# Altium footprint library CQFP_Sq_50P_Side_L.PcbLib: 5 footprints
Each footprint in its own frame and in the unit in brackets; x right, y up, seen from the top. Pads: shape width x height; smd on the part's side, far side on the other; paste and mask are expansions set on the pad; w line width, h text height; cw(c..) or ccw(c..) is an arc to the next point about the centre after c.
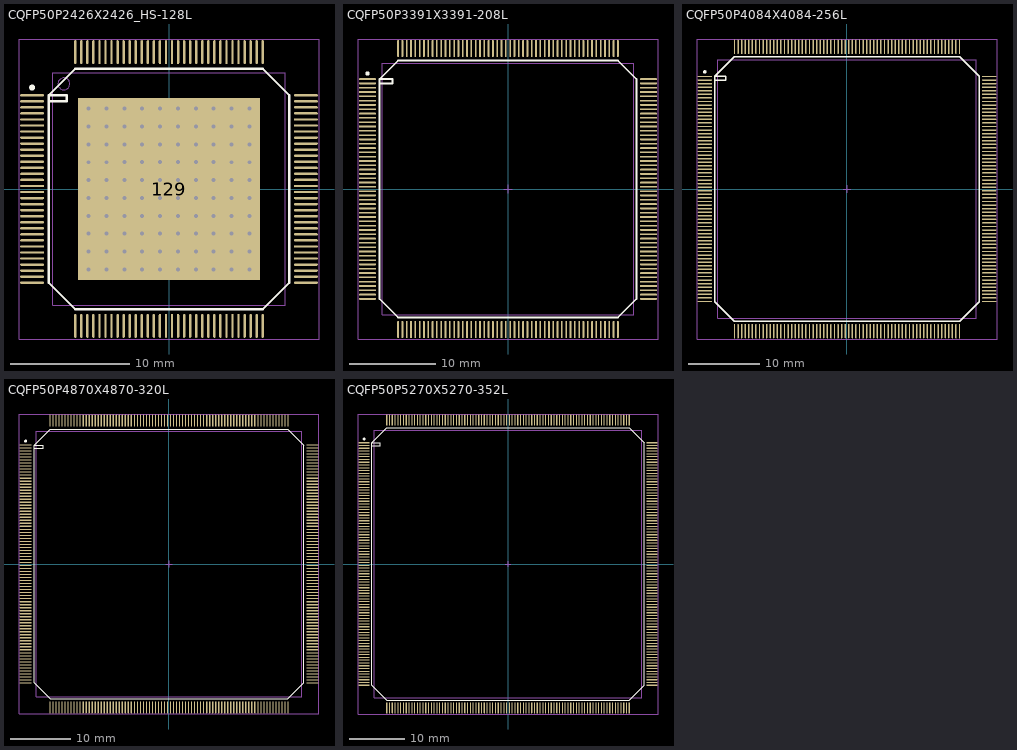
[diagram p0: the footprints below, top view; thin cyan lines are the x and y axes]

## CQFP50P2426X2426_HS-128L [mm] "CQFP, 128-Leads, Body 19.6x19.6mm; Pitch 0.508mm, Gullwing Leadform, IPC High Density"
height 3.4
pads (129):
  oval 2x0.2 smd: 1(-11.5,7.874) 2(-11.5,7.366) 3(-11.5,6.858) 4(-11.5,6.35) 5(-11.5,5.842) 6(-11.5,5.334) 7(-11.5,4.826) 8(-11.5,4.318) 9(-11.5,3.81) 10(-11.5,3.302) 11(-11.5,2.794) 12(-11.5,2.286) 13(-11.5,1.778) 14(-11.5,1.27) 15(-11.5,0.762) 16(-11.5,0.254) 17(-11.5,-0.254) 18(-11.5,-0.762) 19(-11.5,-1.27) 20(-11.5,-1.778) 21(-11.5,-2.286) 22(-11.5,-2.794) 23(-11.5,-3.302) 24(-11.5,-3.81) 25(-11.5,-4.318) 26(-11.5,-4.826) 27(-11.5,-5.334) 28(-11.5,-5.842) 29(-11.5,-6.35) 30(-11.5,-6.858) 31(-11.5,-7.366) 32(-11.5,-7.874) 65(11.5,-7.874) 66(11.5,-7.366) 67(11.5,-6.858) 68(11.5,-6.35) 69(11.5,-5.842) 70(11.5,-5.334) 71(11.5,-4.826) 72(11.5,-4.318) 73(11.5,-3.81) 74(11.5,-3.302) 75(11.5,-2.794) 76(11.5,-2.286) 77(11.5,-1.778) 78(11.5,-1.27) 79(11.5,-0.762) 80(11.5,-0.254) 81(11.5,0.254) 82(11.5,0.762) 83(11.5,1.27) 84(11.5,1.778) 85(11.5,2.286) 86(11.5,2.794) 87(11.5,3.302) 88(11.5,3.81) 89(11.5,4.318) 90(11.5,4.826) 91(11.5,5.334) 92(11.5,5.842) 93(11.5,6.35) 94(11.5,6.858) 95(11.5,7.366) 96(11.5,7.874)
  oval 0.2x2 smd: 33(-7.874,-11.5) 34(-7.366,-11.5) 35(-6.858,-11.5) 36(-6.35,-11.5) 37(-5.842,-11.5) 38(-5.334,-11.5) 39(-4.826,-11.5) 40(-4.318,-11.5) 41(-3.81,-11.5) 42(-3.302,-11.5) 43(-2.794,-11.5) 44(-2.286,-11.5) 45(-1.778,-11.5) 46(-1.27,-11.5) 47(-0.762,-11.5) 48(-0.254,-11.5) 49(0.254,-11.5) 50(0.762,-11.5) 51(1.27,-11.5) 52(1.778,-11.5) 53(2.286,-11.5) 54(2.794,-11.5) 55(3.302,-11.5) 56(3.81,-11.5) 57(4.318,-11.5) 58(4.826,-11.5) 59(5.334,-11.5) 60(5.842,-11.5) 61(6.35,-11.5) 62(6.858,-11.5) 63(7.366,-11.5) 64(7.874,-11.5) 97(7.874,11.5) 98(7.366,11.5) 99(6.858,11.5) 100(6.35,11.5) 101(5.842,11.5) 102(5.334,11.5) 103(4.826,11.5) 104(4.318,11.5) 105(3.81,11.5) 106(3.302,11.5) 107(2.794,11.5) 108(2.286,11.5) 109(1.778,11.5) 110(1.27,11.5) 111(0.762,11.5) 112(0.254,11.5) 113(-0.254,11.5) 114(-0.762,11.5) 115(-1.27,11.5) 116(-1.778,11.5) 117(-2.286,11.5) 118(-2.794,11.5) 119(-3.302,11.5) 120(-3.81,11.5) 121(-4.318,11.5) 122(-4.826,11.5) 123(-5.334,11.5) 124(-5.842,11.5) 125(-6.35,11.5) 126(-6.858,11.5) 127(-7.366,11.5) 128(-7.874,11.5)
  rect 15.3x15.3 smd: 129(0,0)
via 6.75,2.25 diameter 0.43 hole 0.33
via 5.25,2.25 diameter 0.43 hole 0.33
via 6.75,3.75 diameter 0.43 hole 0.33
via 5.25,3.75 diameter 0.43 hole 0.33
via -6.75,3.75 diameter 0.43 hole 0.33
via -6.75,2.25 diameter 0.43 hole 0.33
via -5.25,2.25 diameter 0.43 hole 0.33
via -5.25,3.75 diameter 0.43 hole 0.33
via -6.75,-3.75 diameter 0.43 hole 0.33
via -5.25,-3.75 diameter 0.43 hole 0.33
via -6.75,-2.25 diameter 0.43 hole 0.33
via -5.25,-2.25 diameter 0.43 hole 0.33
via 6.75,-3.75 diameter 0.43 hole 0.33
via 5.25,-3.75 diameter 0.43 hole 0.33
via 6.75,-2.25 diameter 0.43 hole 0.33
via 5.25,-2.25 diameter 0.43 hole 0.33
via 6.75,-0.75 diameter 0.43 hole 0.33
via 6.75,0.75 diameter 0.43 hole 0.33
via 5.25,-0.75 diameter 0.43 hole 0.33
via 5.25,0.75 diameter 0.43 hole 0.33
via -5.25,0.75 diameter 0.43 hole 0.33
via -6.75,0.75 diameter 0.43 hole 0.33
via -6.75,-0.75 diameter 0.43 hole 0.33
via -5.25,-0.75 diameter 0.43 hole 0.33
via 3.75,3.75 diameter 0.43 hole 0.33
via 2.25,3.75 diameter 0.43 hole 0.33
via 0.75,3.75 diameter 0.43 hole 0.33
via -3.75,3.75 diameter 0.43 hole 0.33
via -2.25,3.75 diameter 0.43 hole 0.33
via -0.75,3.75 diameter 0.43 hole 0.33
via 3.75,2.25 diameter 0.43 hole 0.33
via 2.25,2.25 diameter 0.43 hole 0.33
via 0.75,2.25 diameter 0.43 hole 0.33
via -3.75,2.25 diameter 0.43 hole 0.33
via -2.25,2.25 diameter 0.43 hole 0.33
via -0.75,2.25 diameter 0.43 hole 0.33
via 3.75,0.75 diameter 0.43 hole 0.33
via 2.25,0.75 diameter 0.43 hole 0.33
via 0.75,0.75 diameter 0.43 hole 0.33
via -3.75,0.75 diameter 0.43 hole 0.33
via -2.25,0.75 diameter 0.43 hole 0.33
via -0.75,0.75 diameter 0.43 hole 0.33
via 3.75,-3.75 diameter 0.43 hole 0.33
via 2.25,-3.75 diameter 0.43 hole 0.33
via 0.75,-3.75 diameter 0.43 hole 0.33
via -3.75,-3.75 diameter 0.43 hole 0.33
via -2.25,-3.75 diameter 0.43 hole 0.33
via -0.75,-3.75 diameter 0.43 hole 0.33
via 3.75,-2.25 diameter 0.43 hole 0.33
via 2.25,-2.25 diameter 0.43 hole 0.33
via 0.75,-2.25 diameter 0.43 hole 0.33
via -3.75,-2.25 diameter 0.43 hole 0.33
via -2.25,-2.25 diameter 0.43 hole 0.33
via 3.75,-0.75 diameter 0.43 hole 0.33
via 2.25,-0.75 diameter 0.43 hole 0.33
via 0.75,-0.75 diameter 0.43 hole 0.33
via -3.75,-0.75 diameter 0.43 hole 0.33
via -2.25,-0.75 diameter 0.43 hole 0.33
via -0.75,-2.25 diameter 0.43 hole 0.33
via -0.75,-0.75 diameter 0.43 hole 0.33
via -0.75,5.25 diameter 0.43 hole 0.33
via -2.25,5.25 diameter 0.43 hole 0.33
via -3.75,5.25 diameter 0.43 hole 0.33
via 0.75,5.25 diameter 0.43 hole 0.33
via 2.25,5.25 diameter 0.43 hole 0.33
via 3.75,5.25 diameter 0.43 hole 0.33
via -5.25,5.25 diameter 0.43 hole 0.33
via -6.75,5.25 diameter 0.43 hole 0.33
via 5.25,5.25 diameter 0.43 hole 0.33
via 6.75,5.25 diameter 0.43 hole 0.33
via -0.75,6.75 diameter 0.43 hole 0.33
via -2.25,6.75 diameter 0.43 hole 0.33
via -3.75,6.75 diameter 0.43 hole 0.33
via 0.75,6.75 diameter 0.43 hole 0.33
via 2.25,6.75 diameter 0.43 hole 0.33
via 3.75,6.75 diameter 0.43 hole 0.33
via -5.25,6.75 diameter 0.43 hole 0.33
via -6.75,6.75 diameter 0.43 hole 0.33
via 5.25,6.75 diameter 0.43 hole 0.33
via 6.75,6.75 diameter 0.43 hole 0.33
via 0.75,-5.25 diameter 0.43 hole 0.33
via 2.25,-5.25 diameter 0.43 hole 0.33
via 3.75,-5.25 diameter 0.43 hole 0.33
via -0.75,-5.25 diameter 0.43 hole 0.33
via -2.25,-5.25 diameter 0.43 hole 0.33
via -3.75,-5.25 diameter 0.43 hole 0.33
via 5.25,-5.25 diameter 0.43 hole 0.33
via 6.75,-5.25 diameter 0.43 hole 0.33
via -5.25,-5.25 diameter 0.43 hole 0.33
via -6.75,-5.25 diameter 0.43 hole 0.33
via 0.75,-6.75 diameter 0.43 hole 0.33
via 2.25,-6.75 diameter 0.43 hole 0.33
via 3.75,-6.75 diameter 0.43 hole 0.33
via -0.75,-6.75 diameter 0.43 hole 0.33
via -2.25,-6.75 diameter 0.43 hole 0.33
via -3.75,-6.75 diameter 0.43 hole 0.33
via 5.25,-6.75 diameter 0.43 hole 0.33
via 6.75,-6.75 diameter 0.43 hole 0.33
via -5.25,-6.75 diameter 0.43 hole 0.33
via -6.75,-6.75 diameter 0.43 hole 0.33
Top Overlay:
  circle w0.25: c-11.5,8.524 r0.125
  lines w0.2: -10.1,7.375 -8.6,7.375 -8.6,7.875 -10.1,7.875 ; -10.1,7.875 -7.875,10.1 7.875,10.1 10.1,7.875 10.1,-7.875 7.875,-10.1 -7.875,-10.1 -10.1,-7.875 -10.1,7.875
Mechanical 13:
  circle w0.1: c-8.83,8.83 r0.5
  lines w0.1: -9.78,-9.78 9.78,-9.78 9.78,9.78 -9.78,9.78 -9.78,-9.78
Mechanical 15:
  lines w0.1: -0.5,0 0.5,0 ; 0,-0.5 0,0.5 ; -12.6,-12.6 12.6,-12.6 12.6,12.6 -12.6,12.6 -12.6,-12.6
3D body: height 3.4, standoff 0, extent -9.78,-9.78 9.78,9.78

## CQFP50P3391X3391-208L [mm] "CQFP, 208-Leads, Body 29x29mm; Pitch 0.5mm, Gullwing Leadform, IPC High Density"
height 3.3
pads (208):
  oval 2x0.2 smd: 1(-16.3,12.75) 2(-16.3,12.25) 3(-16.3,11.75) 4(-16.3,11.25) 5(-16.3,10.75) 6(-16.3,10.25) 7(-16.3,9.75) 8(-16.3,9.25) 9(-16.3,8.75) 10(-16.3,8.25) 11(-16.3,7.75) 12(-16.3,7.25) 13(-16.3,6.75) 14(-16.3,6.25) 15(-16.3,5.75) 16(-16.3,5.25) 17(-16.3,4.75) 18(-16.3,4.25) 19(-16.3,3.75) 20(-16.3,3.25) 21(-16.3,2.75) 22(-16.3,2.25) 23(-16.3,1.75) 24(-16.3,1.25) 25(-16.3,0.75) 26(-16.3,0.25) 27(-16.3,-0.25) 28(-16.3,-0.75) 29(-16.3,-1.25) 30(-16.3,-1.75) 31(-16.3,-2.25) 32(-16.3,-2.75) 33(-16.3,-3.25) 34(-16.3,-3.75) 35(-16.3,-4.25) 36(-16.3,-4.75) 37(-16.3,-5.25) 38(-16.3,-5.75) 39(-16.3,-6.25) 40(-16.3,-6.75) 41(-16.3,-7.25) 42(-16.3,-7.75) 43(-16.3,-8.25) 44(-16.3,-8.75) 45(-16.3,-9.25) 46(-16.3,-9.75) 47(-16.3,-10.25) 48(-16.3,-10.75) 49(-16.3,-11.25) 50(-16.3,-11.75) 51(-16.3,-12.25) 52(-16.3,-12.75) 105(16.3,-12.75) 106(16.3,-12.25) 107(16.3,-11.75) 108(16.3,-11.25) 109(16.3,-10.75) 110(16.3,-10.25) 111(16.3,-9.75) 112(16.3,-9.25) 113(16.3,-8.75) 114(16.3,-8.25) 115(16.3,-7.75) 116(16.3,-7.25) 117(16.3,-6.75) 118(16.3,-6.25) 119(16.3,-5.75) 120(16.3,-5.25) 121(16.3,-4.75) 122(16.3,-4.25) 123(16.3,-3.75) 124(16.3,-3.25) 125(16.3,-2.75) 126(16.3,-2.25) 127(16.3,-1.75) 128(16.3,-1.25) 129(16.3,-0.75) 130(16.3,-0.25) 131(16.3,0.25) 132(16.3,0.75) 133(16.3,1.25) 134(16.3,1.75) 135(16.3,2.25) 136(16.3,2.75) 137(16.3,3.25) 138(16.3,3.75) 139(16.3,4.25) 140(16.3,4.75) 141(16.3,5.25) 142(16.3,5.75) 143(16.3,6.25) 144(16.3,6.75) 145(16.3,7.25) 146(16.3,7.75) 147(16.3,8.25) 148(16.3,8.75) 149(16.3,9.25) 150(16.3,9.75) 151(16.3,10.25) 152(16.3,10.75) 153(16.3,11.25) 154(16.3,11.75) 155(16.3,12.25) 156(16.3,12.75)
  oval 0.2x2 smd: 53(-12.75,-16.3) 54(-12.25,-16.3) 55(-11.75,-16.3) 56(-11.25,-16.3) 57(-10.75,-16.3) 58(-10.25,-16.3) 59(-9.75,-16.3) 60(-9.25,-16.3) 61(-8.75,-16.3) 62(-8.25,-16.3) 63(-7.75,-16.3) 64(-7.25,-16.3) 65(-6.75,-16.3) 66(-6.25,-16.3) 67(-5.75,-16.3) 68(-5.25,-16.3) 69(-4.75,-16.3) 70(-4.25,-16.3) 71(-3.75,-16.3) 72(-3.25,-16.3) 73(-2.75,-16.3) 74(-2.25,-16.3) 75(-1.75,-16.3) 76(-1.25,-16.3) 77(-0.75,-16.3) 78(-0.25,-16.3) 79(0.25,-16.3) 80(0.75,-16.3) 81(1.25,-16.3) 82(1.75,-16.3) 83(2.25,-16.3) 84(2.75,-16.3) 85(3.25,-16.3) 86(3.75,-16.3) 87(4.25,-16.3) 88(4.75,-16.3) 89(5.25,-16.3) 90(5.75,-16.3) 91(6.25,-16.3) 92(6.75,-16.3) 93(7.25,-16.3) 94(7.75,-16.3) 95(8.25,-16.3) 96(8.75,-16.3) 97(9.25,-16.3) 98(9.75,-16.3) 99(10.25,-16.3) 100(10.75,-16.3) 101(11.25,-16.3) 102(11.75,-16.3) 103(12.25,-16.3) 104(12.75,-16.3) 157(12.75,16.3) 158(12.25,16.3) 159(11.75,16.3) 160(11.25,16.3) 161(10.75,16.3) 162(10.25,16.3) 163(9.75,16.3) 164(9.25,16.3) 165(8.75,16.3) 166(8.25,16.3) 167(7.75,16.3) 168(7.25,16.3) 169(6.75,16.3) 170(6.25,16.3) 171(5.75,16.3) 172(5.25,16.3) 173(4.75,16.3) 174(4.25,16.3) 175(3.75,16.3) 176(3.25,16.3) 177(2.75,16.3) 178(2.25,16.3) 179(1.75,16.3) 180(1.25,16.3) 181(0.75,16.3) 182(0.25,16.3) 183(-0.25,16.3) 184(-0.75,16.3) 185(-1.25,16.3) 186(-1.75,16.3) 187(-2.25,16.3) 188(-2.75,16.3) 189(-3.25,16.3) 190(-3.75,16.3) 191(-4.25,16.3) 192(-4.75,16.3) 193(-5.25,16.3) 194(-5.75,16.3) 195(-6.25,16.3) 196(-6.75,16.3) 197(-7.25,16.3) 198(-7.75,16.3) 199(-8.25,16.3) 200(-8.75,16.3) 201(-9.25,16.3) 202(-9.75,16.3) 203(-10.25,16.3) 204(-10.75,16.3) 205(-11.25,16.3) 206(-11.75,16.3) 207(-12.25,16.3) 208(-12.75,16.3)
Top Overlay:
  circle w0.25: c-16.3,13.4 r0.125
  lines w0.2: -14.9,12.25 -13.4,12.25 -13.4,12.75 -14.9,12.75 ; -14.9,12.75 -14.9,-12.75 -12.75,-14.9 12.75,-14.9 14.9,-12.75 14.9,12.75 12.75,14.9 -12.75,14.9 -14.9,12.75
Mechanical 13:
  lines w0.1: -14.605,-14.605 -14.605,14.605 14.605,14.605 14.605,-14.605 -14.605,-14.605
Mechanical 15:
  lines w0.1: -0.5,0 0.5,0 ; 0,-0.5 0,0.5 ; -17.4,-17.4 -17.4,17.4 17.4,17.4 17.4,-17.4 -17.4,-17.4
3D body: height 3.3, standoff 0, extent -14.605,-14.605 14.605,14.605

## CQFP50P4084X4084-256L [mm] "CQFP, 256-Leads, Body 36x36mm; Pitch 0.5mm, Gullwing Leadform, IPC High Density"
height 3.3
pads (256):
  oval 2x0.2 smd: 1(-19.9,15.75) 2(-19.9,15.25) 3(-19.9,14.75) 4(-19.9,14.25) 5(-19.9,13.75) 6(-19.9,13.25) 7(-19.9,12.75) 8(-19.9,12.25) 9(-19.9,11.75) 10(-19.9,11.25) 11(-19.9,10.75) 12(-19.9,10.25) 13(-19.9,9.75) 14(-19.9,9.25) 15(-19.9,8.75) 16(-19.9,8.25) 17(-19.9,7.75) 18(-19.9,7.25) 19(-19.9,6.75) 20(-19.9,6.25) 21(-19.9,5.75) 22(-19.9,5.25) 23(-19.9,4.75) 24(-19.9,4.25) 25(-19.9,3.75) 26(-19.9,3.25) 27(-19.9,2.75) 28(-19.9,2.25) 29(-19.9,1.75) 30(-19.9,1.25) 31(-19.9,0.75) 32(-19.9,0.25) 33(-19.9,-0.25) 34(-19.9,-0.75) 35(-19.9,-1.25) 36(-19.9,-1.75) 37(-19.9,-2.25) 38(-19.9,-2.75) 39(-19.9,-3.25) 40(-19.9,-3.75) 41(-19.9,-4.25) 42(-19.9,-4.75) 43(-19.9,-5.25) 44(-19.9,-5.75) 45(-19.9,-6.25) 46(-19.9,-6.75) 47(-19.9,-7.25) 48(-19.9,-7.75) 49(-19.9,-8.25) 50(-19.9,-8.75) 51(-19.9,-9.25) 52(-19.9,-9.75) 53(-19.9,-10.25) 54(-19.9,-10.75) 55(-19.9,-11.25) 56(-19.9,-11.75) 57(-19.9,-12.25) 58(-19.9,-12.75) 59(-19.9,-13.25) 60(-19.9,-13.75) 61(-19.9,-14.25) 62(-19.9,-14.75) 63(-19.9,-15.25) 64(-19.9,-15.75) 129(19.9,-15.75) 130(19.9,-15.25) 131(19.9,-14.75) 132(19.9,-14.25) 133(19.9,-13.75) 134(19.9,-13.25) 135(19.9,-12.75) 136(19.9,-12.25) 137(19.9,-11.75) 138(19.9,-11.25) 139(19.9,-10.75) 140(19.9,-10.25) 141(19.9,-9.75) 142(19.9,-9.25) 143(19.9,-8.75) 144(19.9,-8.25) 145(19.9,-7.75) 146(19.9,-7.25) 147(19.9,-6.75) 148(19.9,-6.25) 149(19.9,-5.75) 150(19.9,-5.25) 151(19.9,-4.75) 152(19.9,-4.25) 153(19.9,-3.75) 154(19.9,-3.25) 155(19.9,-2.75) 156(19.9,-2.25) 157(19.9,-1.75) 158(19.9,-1.25) 159(19.9,-0.75) 160(19.9,-0.25) 161(19.9,0.25) 162(19.9,0.75) 163(19.9,1.25) 164(19.9,1.75) 165(19.9,2.25) 166(19.9,2.75) 167(19.9,3.25) 168(19.9,3.75) 169(19.9,4.25) 170(19.9,4.75) 171(19.9,5.25) 172(19.9,5.75) 173(19.9,6.25) 174(19.9,6.75) 175(19.9,7.25) 176(19.9,7.75) 177(19.9,8.25) 178(19.9,8.75) 179(19.9,9.25) 180(19.9,9.75) 181(19.9,10.25) 182(19.9,10.75) 183(19.9,11.25) 184(19.9,11.75) 185(19.9,12.25) 186(19.9,12.75) 187(19.9,13.25) 188(19.9,13.75) 189(19.9,14.25) 190(19.9,14.75) 191(19.9,15.25) 192(19.9,15.75)
  oval 0.2x2 smd: 65(-15.75,-19.9) 66(-15.25,-19.9) 67(-14.75,-19.9) 68(-14.25,-19.9) 69(-13.75,-19.9) 70(-13.25,-19.9) 71(-12.75,-19.9) 72(-12.25,-19.9) 73(-11.75,-19.9) 74(-11.25,-19.9) 75(-10.75,-19.9) 76(-10.25,-19.9) 77(-9.75,-19.9) 78(-9.25,-19.9) 79(-8.75,-19.9) 80(-8.25,-19.9) 81(-7.75,-19.9) 82(-7.25,-19.9) 83(-6.75,-19.9) 84(-6.25,-19.9) 85(-5.75,-19.9) 86(-5.25,-19.9) 87(-4.75,-19.9) 88(-4.25,-19.9) 89(-3.75,-19.9) 90(-3.25,-19.9) 91(-2.75,-19.9) 92(-2.25,-19.9) 93(-1.75,-19.9) 94(-1.25,-19.9) 95(-0.75,-19.9) 96(-0.25,-19.9) 97(0.25,-19.9) 98(0.75,-19.9) 99(1.25,-19.9) 100(1.75,-19.9) 101(2.25,-19.9) 102(2.75,-19.9) 103(3.25,-19.9) 104(3.75,-19.9) 105(4.25,-19.9) 106(4.75,-19.9) 107(5.25,-19.9) 108(5.75,-19.9) 109(6.25,-19.9) 110(6.75,-19.9) 111(7.25,-19.9) 112(7.75,-19.9) 113(8.25,-19.9) 114(8.75,-19.9) 115(9.25,-19.9) 116(9.75,-19.9) 117(10.25,-19.9) 118(10.75,-19.9) 119(11.25,-19.9) 120(11.75,-19.9) 121(12.25,-19.9) 122(12.75,-19.9) 123(13.25,-19.9) 124(13.75,-19.9) 125(14.25,-19.9) 126(14.75,-19.9) 127(15.25,-19.9) 128(15.75,-19.9) 193(15.75,19.9) 194(15.25,19.9) 195(14.75,19.9) 196(14.25,19.9) 197(13.75,19.9) 198(13.25,19.9) 199(12.75,19.9) 200(12.25,19.9) 201(11.75,19.9) 202(11.25,19.9) 203(10.75,19.9) 204(10.25,19.9) 205(9.75,19.9) 206(9.25,19.9) 207(8.75,19.9) 208(8.25,19.9) 209(7.75,19.9) 210(7.25,19.9) 211(6.75,19.9) 212(6.25,19.9) 213(5.75,19.9) 214(5.25,19.9) 215(4.75,19.9) 216(4.25,19.9) 217(3.75,19.9) 218(3.25,19.9) 219(2.75,19.9) 220(2.25,19.9) 221(1.75,19.9) 222(1.25,19.9) 223(0.75,19.9) 224(0.25,19.9) 225(-0.25,19.9) 226(-0.75,19.9) 227(-1.25,19.9) 228(-1.75,19.9) 229(-2.25,19.9) 230(-2.75,19.9) 231(-3.25,19.9) 232(-3.75,19.9) 233(-4.25,19.9) 234(-4.75,19.9) 235(-5.25,19.9) 236(-5.75,19.9) 237(-6.25,19.9) 238(-6.75,19.9) 239(-7.25,19.9) 240(-7.75,19.9) 241(-8.25,19.9) 242(-8.75,19.9) 243(-9.25,19.9) 244(-9.75,19.9) 245(-10.25,19.9) 246(-10.75,19.9) 247(-11.25,19.9) 248(-11.75,19.9) 249(-12.25,19.9) 250(-12.75,19.9) 251(-13.25,19.9) 252(-13.75,19.9) 253(-14.25,19.9) 254(-14.75,19.9) 255(-15.25,19.9) 256(-15.75,19.9)
Top Overlay:
  circle w0.25: c-19.9,16.4 r0.125
  lines w0.2: -18.5,15.25 -17,15.25 -17,15.75 -18.5,15.75 ; -18.5,15.75 -18.5,-15.75 -15.75,-18.5 15.75,-18.5 18.5,-15.75 18.5,15.75 15.75,18.5 -15.75,18.5 -18.5,15.75
Mechanical 13:
  lines w0.1: -18.07,-18.07 -18.07,18.07 18.07,18.07 18.07,-18.07 -18.07,-18.07
Mechanical 15:
  lines w0.1: -0.5,0 0.5,0 ; 0,-0.5 0,0.5 ; -21,-21 -21,21 21,21 21,-21 -21,-21
3D body: height 3.3, standoff 0, extent -18.07,-18.07 18.07,18.07

## CQFP50P4870X4870-320L [mm] "QFP; 320 Leads; Body 44 x 44 mm; Pitch 0.5mm"
height 2.7
pads (320):
  oval 2x0.2 smd: 1(-23.8,19.75) 2(-23.8,19.25) 3(-23.8,18.75) 4(-23.8,18.25) 5(-23.8,17.75) 6(-23.8,17.25) 7(-23.8,16.75) 8(-23.8,16.25) 9(-23.8,15.75) 10(-23.8,15.25) 11(-23.8,14.75) 12(-23.8,14.25) 13(-23.8,13.75) 14(-23.8,13.25) 15(-23.8,12.75) 16(-23.8,12.25) 17(-23.8,11.75) 18(-23.8,11.25) 19(-23.8,10.75) 20(-23.8,10.25) 21(-23.8,9.75) 22(-23.8,9.25) 23(-23.8,8.75) 24(-23.8,8.25) 25(-23.8,7.75) 26(-23.8,7.25) 27(-23.8,6.75) 28(-23.8,6.25) 29(-23.8,5.75) 30(-23.8,5.25) 31(-23.8,4.75) 32(-23.8,4.25) 33(-23.8,3.75) 34(-23.8,3.25) 35(-23.8,2.75) 36(-23.8,2.25) 37(-23.8,1.75) 38(-23.8,1.25) 39(-23.8,0.75) 40(-23.8,0.25) 41(-23.8,-0.25) 42(-23.8,-0.75) 43(-23.8,-1.25) 44(-23.8,-1.75) 45(-23.8,-2.25) 46(-23.8,-2.75) 47(-23.8,-3.25) 48(-23.8,-3.75) 49(-23.8,-4.25) 50(-23.8,-4.75) 51(-23.8,-5.25) 52(-23.8,-5.75) 53(-23.8,-6.25) 54(-23.8,-6.75) 55(-23.8,-7.25) 56(-23.8,-7.75) 57(-23.8,-8.25) 58(-23.8,-8.75) 59(-23.8,-9.25) 60(-23.8,-9.75) 61(-23.8,-10.25) 62(-23.8,-10.75) 63(-23.8,-11.25) 64(-23.8,-11.75) 65(-23.8,-12.25) 66(-23.8,-12.75) 67(-23.8,-13.25) 68(-23.8,-13.75) 69(-23.8,-14.25) 70(-23.8,-14.75) 71(-23.8,-15.25) 72(-23.8,-15.75) 73(-23.8,-16.25) 74(-23.8,-16.75) 75(-23.8,-17.25) 76(-23.8,-17.75) 77(-23.8,-18.25) 78(-23.8,-18.75) 79(-23.8,-19.25) 80(-23.8,-19.75) 161(23.8,-19.75) 162(23.8,-19.25) 163(23.8,-18.75) 164(23.8,-18.25) 165(23.8,-17.75) 166(23.8,-17.25) 167(23.8,-16.75) 168(23.8,-16.25) 169(23.8,-15.75) 170(23.8,-15.25) 171(23.8,-14.75) 172(23.8,-14.25) 173(23.8,-13.75) 174(23.8,-13.25) 175(23.8,-12.75) 176(23.8,-12.25) 177(23.8,-11.75) 178(23.8,-11.25) 179(23.8,-10.75) 180(23.8,-10.25) 181(23.8,-9.75) 182(23.8,-9.25) 183(23.8,-8.75) 184(23.8,-8.25) 185(23.8,-7.75) 186(23.8,-7.25) 187(23.8,-6.75) 188(23.8,-6.25) 189(23.8,-5.75) 190(23.8,-5.25) 191(23.8,-4.75) 192(23.8,-4.25) 193(23.8,-3.75) 194(23.8,-3.25) 195(23.8,-2.75) 196(23.8,-2.25) 197(23.8,-1.75) 198(23.8,-1.25) 199(23.8,-0.75) 200(23.8,-0.25) 201(23.8,0.25) 202(23.8,0.75) 203(23.8,1.25) 204(23.8,1.75) 205(23.8,2.25) 206(23.8,2.75) 207(23.8,3.25) 208(23.8,3.75) 209(23.8,4.25) 210(23.8,4.75) 211(23.8,5.25) 212(23.8,5.75) 213(23.8,6.25) 214(23.8,6.75) 215(23.8,7.25) 216(23.8,7.75) 217(23.8,8.25) 218(23.8,8.75) 219(23.8,9.25) 220(23.8,9.75) 221(23.8,10.25) 222(23.8,10.75) 223(23.8,11.25) 224(23.8,11.75) 225(23.8,12.25) 226(23.8,12.75) 227(23.8,13.25) 228(23.8,13.75) 229(23.8,14.25) 230(23.8,14.75) 231(23.8,15.25) 232(23.8,15.75) 233(23.8,16.25) 234(23.8,16.75) 235(23.8,17.25) 236(23.8,17.75) 237(23.8,18.25) 238(23.8,18.75) 239(23.8,19.25) 240(23.8,19.75)
  oval 0.2x2 smd: 81(-19.75,-23.8) 82(-19.25,-23.8) 83(-18.75,-23.8) 84(-18.25,-23.8) 85(-17.75,-23.8) 86(-17.25,-23.8) 87(-16.75,-23.8) 88(-16.25,-23.8) 89(-15.75,-23.8) 90(-15.25,-23.8) 91(-14.75,-23.8) 92(-14.25,-23.8) 93(-13.75,-23.8) 94(-13.25,-23.8) 95(-12.75,-23.8) 96(-12.25,-23.8) 97(-11.75,-23.8) 98(-11.25,-23.8) 99(-10.75,-23.8) 100(-10.25,-23.8) 101(-9.75,-23.8) 102(-9.25,-23.8) 103(-8.75,-23.8) 104(-8.25,-23.8) 105(-7.75,-23.8) 106(-7.25,-23.8) 107(-6.75,-23.8) 108(-6.25,-23.8) 109(-5.75,-23.8) 110(-5.25,-23.8) 111(-4.75,-23.8) 112(-4.25,-23.8) 113(-3.75,-23.8) 114(-3.25,-23.8) 115(-2.75,-23.8) 116(-2.25,-23.8) 117(-1.75,-23.8) 118(-1.25,-23.8) 119(-0.75,-23.8) 120(-0.25,-23.8) 121(0.25,-23.8) 122(0.75,-23.8) 123(1.25,-23.8) 124(1.75,-23.8) 125(2.25,-23.8) 126(2.75,-23.8) 127(3.25,-23.8) 128(3.75,-23.8) 129(4.25,-23.8) 130(4.75,-23.8) 131(5.25,-23.8) 132(5.75,-23.8) 133(6.25,-23.8) 134(6.75,-23.8) 135(7.25,-23.8) 136(7.75,-23.8) 137(8.25,-23.8) 138(8.75,-23.8) 139(9.25,-23.8) 140(9.75,-23.8) 141(10.25,-23.8) 142(10.75,-23.8) 143(11.25,-23.8) 144(11.75,-23.8) 145(12.25,-23.8) 146(12.75,-23.8) 147(13.25,-23.8) 148(13.75,-23.8) 149(14.25,-23.8) 150(14.75,-23.8) 151(15.25,-23.8) 152(15.75,-23.8) 153(16.25,-23.8) 154(16.75,-23.8) 155(17.25,-23.8) 156(17.75,-23.8) 157(18.25,-23.8) 158(18.75,-23.8) 159(19.25,-23.8) 160(19.75,-23.8) 241(19.75,23.8) 242(19.25,23.8) 243(18.75,23.8) 244(18.25,23.8) 245(17.75,23.8) 246(17.25,23.8) 247(16.75,23.8) 248(16.25,23.8) 249(15.75,23.8) 250(15.25,23.8) 251(14.75,23.8) 252(14.25,23.8) 253(13.75,23.8) 254(13.25,23.8) 255(12.75,23.8) 256(12.25,23.8) 257(11.75,23.8) 258(11.25,23.8) 259(10.75,23.8) 260(10.25,23.8) 261(9.75,23.8) 262(9.25,23.8) 263(8.75,23.8) 264(8.25,23.8) 265(7.75,23.8) 266(7.25,23.8) 267(6.75,23.8) 268(6.25,23.8) 269(5.75,23.8) 270(5.25,23.8) 271(4.75,23.8) 272(4.25,23.8) 273(3.75,23.8) 274(3.25,23.8) 275(2.75,23.8) 276(2.25,23.8) 277(1.75,23.8) 278(1.25,23.8) 279(0.75,23.8) 280(0.25,23.8) 281(-0.25,23.8) 282(-0.75,23.8) 283(-1.25,23.8) 284(-1.75,23.8) 285(-2.25,23.8) 286(-2.75,23.8) 287(-3.25,23.8) 288(-3.75,23.8) 289(-4.25,23.8) 290(-4.75,23.8) 291(-5.25,23.8) 292(-5.75,23.8) 293(-6.25,23.8) 294(-6.75,23.8) 295(-7.25,23.8) 296(-7.75,23.8) 297(-8.25,23.8) 298(-8.75,23.8) 299(-9.25,23.8) 300(-9.75,23.8) 301(-10.25,23.8) 302(-10.75,23.8) 303(-11.25,23.8) 304(-11.75,23.8) 305(-12.25,23.8) 306(-12.75,23.8) 307(-13.25,23.8) 308(-13.75,23.8) 309(-14.25,23.8) 310(-14.75,23.8) 311(-15.25,23.8) 312(-15.75,23.8) 313(-16.25,23.8) 314(-16.75,23.8) 315(-17.25,23.8) 316(-17.75,23.8) 317(-18.25,23.8) 318(-18.75,23.8) 319(-19.25,23.8) 320(-19.75,23.8)
Top Overlay:
  circle w0.25: c-23.8,20.4 r0.125
  lines w0.2: -22.4,19.25 -20.9,19.25 -20.9,19.75 -22.4,19.75 ; -22.4,19.75 -19.75,22.4 19.75,22.4 22.4,19.75 22.4,-19.75 19.75,-22.4 -19.75,-22.4 -22.4,-19.75 -22.4,19.75
Mechanical 13:
  lines w0.1: -22,-22 22,-22 22,22 -22,22 -22,-22
Mechanical 15:
  lines w0.1: -0.5,0 0.5,0 ; 0,-0.5 0,0.5 ; -24.9,-24.9 24.9,-24.9 24.9,24.9 -24.9,24.9 -24.9,-24.9
3D body: height 2.7, standoff 0, extent -22,-22 22,22

## CQFP50P5270X5270-352L [mm] "CQFP, 352-Leads, Body 48x48mm; Pitch 0.5mm, Gullwing Leadform, IPC High Density"
height 2.9
pads (352):
  oval 2x0.2 smd: 1(-25.8,21.75) 2(-25.8,21.25) 3(-25.8,20.75) 4(-25.8,20.25) 5(-25.8,19.75) 6(-25.8,19.25) 7(-25.8,18.75) 8(-25.8,18.25) 9(-25.8,17.75) 10(-25.8,17.25) 11(-25.8,16.75) 12(-25.8,16.25) 13(-25.8,15.75) 14(-25.8,15.25) 15(-25.8,14.75) 16(-25.8,14.25) 17(-25.8,13.75) 18(-25.8,13.25) 19(-25.8,12.75) 20(-25.8,12.25) 21(-25.8,11.75) 22(-25.8,11.25) 23(-25.8,10.75) 24(-25.8,10.25) 25(-25.8,9.75) 26(-25.8,9.25) 27(-25.8,8.75) 28(-25.8,8.25) 29(-25.8,7.75) 30(-25.8,7.25) 31(-25.8,6.75) 32(-25.8,6.25) 33(-25.8,5.75) 34(-25.8,5.25) 35(-25.8,4.75) 36(-25.8,4.25) 37(-25.8,3.75) 38(-25.8,3.25) 39(-25.8,2.75) 40(-25.8,2.25) 41(-25.8,1.75) 42(-25.8,1.25) 43(-25.8,0.75) 44(-25.8,0.25) 45(-25.8,-0.25) 46(-25.8,-0.75) 47(-25.8,-1.25) 48(-25.8,-1.75) 49(-25.8,-2.25) 50(-25.8,-2.75) 51(-25.8,-3.25) 52(-25.8,-3.75) 53(-25.8,-4.25) 54(-25.8,-4.75) 55(-25.8,-5.25) 56(-25.8,-5.75) 57(-25.8,-6.25) 58(-25.8,-6.75) 59(-25.8,-7.25) 60(-25.8,-7.75) 61(-25.8,-8.25) 62(-25.8,-8.75) 63(-25.8,-9.25) 64(-25.8,-9.75) 65(-25.8,-10.25) 66(-25.8,-10.75) 67(-25.8,-11.25) 68(-25.8,-11.75) 69(-25.8,-12.25) 70(-25.8,-12.75) 71(-25.8,-13.25) 72(-25.8,-13.75) 73(-25.8,-14.25) 74(-25.8,-14.75) 75(-25.8,-15.25) 76(-25.8,-15.75) 77(-25.8,-16.25) 78(-25.8,-16.75) 79(-25.8,-17.25) 80(-25.8,-17.75) 81(-25.8,-18.25) 82(-25.8,-18.75) 83(-25.8,-19.25) 84(-25.8,-19.75) 85(-25.8,-20.25) 86(-25.8,-20.75) 87(-25.8,-21.25) 88(-25.8,-21.75) 177(25.8,-21.75) 178(25.8,-21.25) 179(25.8,-20.75) 180(25.8,-20.25) 181(25.8,-19.75) 182(25.8,-19.25) 183(25.8,-18.75) 184(25.8,-18.25) 185(25.8,-17.75) 186(25.8,-17.25) 187(25.8,-16.75) 188(25.8,-16.25) 189(25.8,-15.75) 190(25.8,-15.25) 191(25.8,-14.75) 192(25.8,-14.25) 193(25.8,-13.75) 194(25.8,-13.25) 195(25.8,-12.75) 196(25.8,-12.25) 197(25.8,-11.75) 198(25.8,-11.25) 199(25.8,-10.75) 200(25.8,-10.25) 201(25.8,-9.75) 202(25.8,-9.25) 203(25.8,-8.75) 204(25.8,-8.25) 205(25.8,-7.75) 206(25.8,-7.25) 207(25.8,-6.75) 208(25.8,-6.25) 209(25.8,-5.75) 210(25.8,-5.25) 211(25.8,-4.75) 212(25.8,-4.25) 213(25.8,-3.75) 214(25.8,-3.25) 215(25.8,-2.75) 216(25.8,-2.25) 217(25.8,-1.75) 218(25.8,-1.25) 219(25.8,-0.75) 220(25.8,-0.25) 221(25.8,0.25) 222(25.8,0.75) 223(25.8,1.25) 224(25.8,1.75) 225(25.8,2.25) 226(25.8,2.75) 227(25.8,3.25) 228(25.8,3.75) 229(25.8,4.25) 230(25.8,4.75) 231(25.8,5.25) 232(25.8,5.75) 233(25.8,6.25) 234(25.8,6.75) 235(25.8,7.25) 236(25.8,7.75) 237(25.8,8.25) 238(25.8,8.75) 239(25.8,9.25) 240(25.8,9.75) 241(25.8,10.25) 242(25.8,10.75) 243(25.8,11.25) 244(25.8,11.75) 245(25.8,12.25) 246(25.8,12.75) 247(25.8,13.25) 248(25.8,13.75) 249(25.8,14.25) 250(25.8,14.75) 251(25.8,15.25) 252(25.8,15.75) 253(25.8,16.25) 254(25.8,16.75) 255(25.8,17.25) 256(25.8,17.75) 257(25.8,18.25) 258(25.8,18.75) 259(25.8,19.25) 260(25.8,19.75) 261(25.8,20.25) 262(25.8,20.75) 263(25.8,21.25) 264(25.8,21.75)
  oval 0.2x2 smd: 89(-21.75,-25.8) 90(-21.25,-25.8) 91(-20.75,-25.8) 92(-20.25,-25.8) 93(-19.75,-25.8) 94(-19.25,-25.8) 95(-18.75,-25.8) 96(-18.25,-25.8) 97(-17.75,-25.8) 98(-17.25,-25.8) 99(-16.75,-25.8) 100(-16.25,-25.8) 101(-15.75,-25.8) 102(-15.25,-25.8) 103(-14.75,-25.8) 104(-14.25,-25.8) 105(-13.75,-25.8) 106(-13.25,-25.8) 107(-12.75,-25.8) 108(-12.25,-25.8) 109(-11.75,-25.8) 110(-11.25,-25.8) 111(-10.75,-25.8) 112(-10.25,-25.8) 113(-9.75,-25.8) 114(-9.25,-25.8) 115(-8.75,-25.8) 116(-8.25,-25.8) 117(-7.75,-25.8) 118(-7.25,-25.8) 119(-6.75,-25.8) 120(-6.25,-25.8) 121(-5.75,-25.8) 122(-5.25,-25.8) 123(-4.75,-25.8) 124(-4.25,-25.8) 125(-3.75,-25.8) 126(-3.25,-25.8) 127(-2.75,-25.8) 128(-2.25,-25.8) 129(-1.75,-25.8) 130(-1.25,-25.8) 131(-0.75,-25.8) 132(-0.25,-25.8) 133(0.25,-25.8) 134(0.75,-25.8) 135(1.25,-25.8) 136(1.75,-25.8) 137(2.25,-25.8) 138(2.75,-25.8) 139(3.25,-25.8) 140(3.75,-25.8) 141(4.25,-25.8) 142(4.75,-25.8) 143(5.25,-25.8) 144(5.75,-25.8) 145(6.25,-25.8) 146(6.75,-25.8) 147(7.25,-25.8) 148(7.75,-25.8) 149(8.25,-25.8) 150(8.75,-25.8) 151(9.25,-25.8) 152(9.75,-25.8) 153(10.25,-25.8) 154(10.75,-25.8) 155(11.25,-25.8) 156(11.75,-25.8) 157(12.25,-25.8) 158(12.75,-25.8) 159(13.25,-25.8) 160(13.75,-25.8) 161(14.25,-25.8) 162(14.75,-25.8) 163(15.25,-25.8) 164(15.75,-25.8) 165(16.25,-25.8) 166(16.75,-25.8) 167(17.25,-25.8) 168(17.75,-25.8) 169(18.25,-25.8) 170(18.75,-25.8) 171(19.25,-25.8) 172(19.75,-25.8) 173(20.25,-25.8) 174(20.75,-25.8) 175(21.25,-25.8) 176(21.75,-25.8) 265(21.75,25.8) 266(21.25,25.8) 267(20.75,25.8) 268(20.25,25.8) 269(19.75,25.8) 270(19.25,25.8) 271(18.75,25.8) 272(18.25,25.8) 273(17.75,25.8) 274(17.25,25.8) 275(16.75,25.8) 276(16.25,25.8) 277(15.75,25.8) 278(15.25,25.8) 279(14.75,25.8) 280(14.25,25.8) 281(13.75,25.8) 282(13.25,25.8) 283(12.75,25.8) 284(12.25,25.8) 285(11.75,25.8) 286(11.25,25.8) 287(10.75,25.8) 288(10.25,25.8) 289(9.75,25.8) 290(9.25,25.8) 291(8.75,25.8) 292(8.25,25.8) 293(7.75,25.8) 294(7.25,25.8) 295(6.75,25.8) 296(6.25,25.8) 297(5.75,25.8) 298(5.25,25.8) 299(4.75,25.8) 300(4.25,25.8) 301(3.75,25.8) 302(3.25,25.8) 303(2.75,25.8) 304(2.25,25.8) 305(1.75,25.8) 306(1.25,25.8) 307(0.75,25.8) 308(0.25,25.8) 309(-0.25,25.8) 310(-0.75,25.8) 311(-1.25,25.8) 312(-1.75,25.8) 313(-2.25,25.8) 314(-2.75,25.8) 315(-3.25,25.8) 316(-3.75,25.8) 317(-4.25,25.8) 318(-4.75,25.8) 319(-5.25,25.8) 320(-5.75,25.8) 321(-6.25,25.8) 322(-6.75,25.8) 323(-7.25,25.8) 324(-7.75,25.8) 325(-8.25,25.8) 326(-8.75,25.8) 327(-9.25,25.8) 328(-9.75,25.8) 329(-10.25,25.8) 330(-10.75,25.8) 331(-11.25,25.8) 332(-11.75,25.8) 333(-12.25,25.8) 334(-12.75,25.8) 335(-13.25,25.8) 336(-13.75,25.8) 337(-14.25,25.8) 338(-14.75,25.8) 339(-15.25,25.8) 340(-15.75,25.8) 341(-16.25,25.8) 342(-16.75,25.8) 343(-17.25,25.8) 344(-17.75,25.8) 345(-18.25,25.8) 346(-18.75,25.8) 347(-19.25,25.8) 348(-19.75,25.8) 349(-20.25,25.8) 350(-20.75,25.8) 351(-21.25,25.8) 352(-21.75,25.8)
Top Overlay:
  circle w0.25: c-25.8,22.4 r0.125
  lines w0.2: -24.4,21.25 -22.9,21.25 -22.9,21.75 -24.4,21.75 ; -24.4,21.75 -24.4,-21.75 -21.75,-24.4 21.75,-24.4 24.4,-21.75 24.4,21.75 21.75,24.4 -21.75,24.4 -24.4,21.75
Mechanical 13:
  lines w0.1: -24,-24 -24,24 24,24 24,-24 -24,-24
Mechanical 15:
  lines w0.1: -0.5,0 0.5,0 ; 0,-0.5 0,0.5 ; -26.9,-26.9 -26.9,26.9 26.9,26.9 26.9,-26.9 -26.9,-26.9
3D body: height 2.9, standoff 0, extent -24,-24 24,24